# Altium schematic symbol library ul2016.SCHLIB: 21 symbols
Pins are listed as number, name and electrical type; pins without a type are passive.

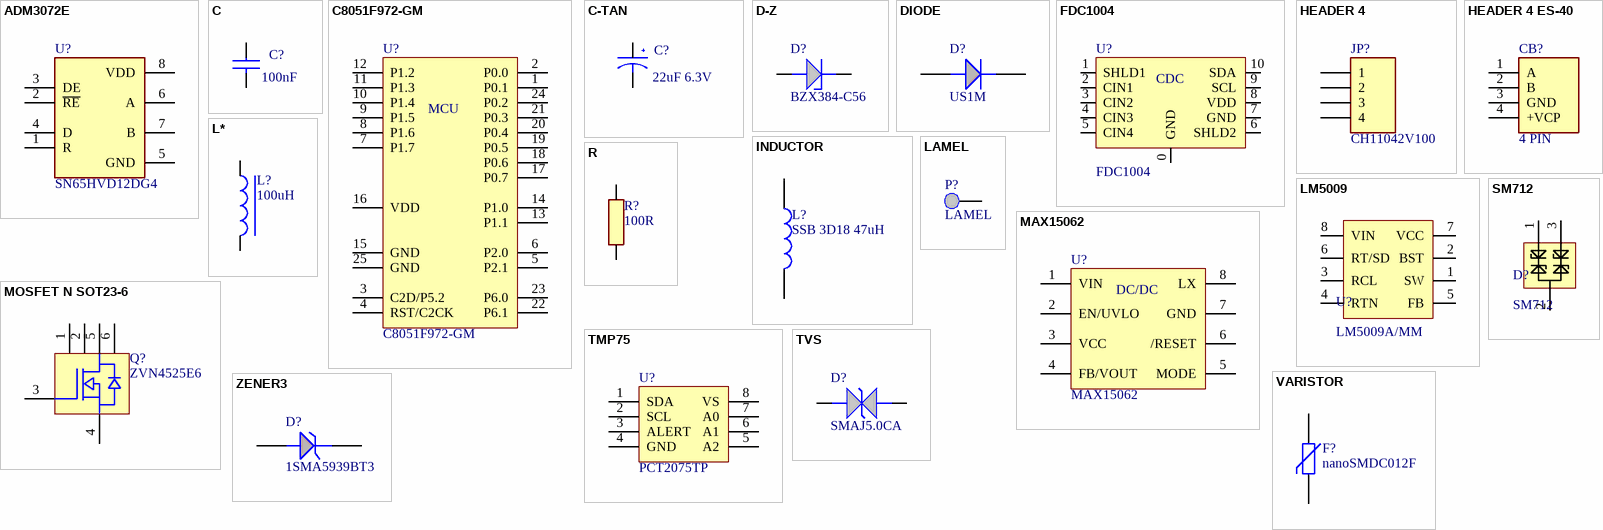
[diagram p0: symbols ADM3072E to ZENER3]

## ADM3072E
designator U?, comment SN65HVD12DG4
RS-485 Bus Transceiver
footprint SO8-(SOT-96-1)
footprint DIP-8
footprint S-PVSON-N8
pins: 1 R, 2 ~{RE}, 3 DE, 4 D, 5 GND (power), 6 A, 7 B, 8 VDD (power)
1 alternate drawing of the same symbol

## C
designator C?, comment 100nF
Производитель: Hitano; Точность: 20%; Напряжение: 16V; Тип диэлектрика: X7R
footprint C-0805
footprint C-0603
footprint C-1206
footprint C-1210
pins: 1, 2

## C8051F972-GM
designator U?
Part Field 1: Silabs; Part Field 6: 8-bit MCU
footprint QFN24_silabs
footprint QFN-24
pins: 1 P0.1, 2 P0.0, 3 C2D/P5.2, 4 RST/C2CK, 5 P2.1, 6 P2.0, 7 P1.7, 8 P1.6, 9 P1.5, 10 P1.4, 11 P1.3, 12 P1.2, 13 P1.1, 14 P1.0, 15 GND, 16 VDD, 17 P0.7, 18 P0.6, 19 P0.5, 20 P0.4, 21 P0.3, 22 P6.1, 23 P6.0, 24 P0.2, 25 GND
text: MCU

## C-TAN
designator C?, comment 22uF 6.3V
Производитель: AVX; Точность: 20%; Тип диэлектрика: TA; Напряжение: 6.3V
footprint TANT-A
footprint TANT-B
footprint TANT-C
footprint TANT-D
pins: 1 +, 2 -

## D-Z
designator D?, comment BZX384-C56
Part Field 1: *; Part Field 6: *
footprint SOD-80
footprint SOD-323-(SC-76)
pins: A, K

## DIODE
designator D?, comment US1M
Diode
footprint SMA
pins: 1 A, 2 K

## FDC1004
designator U?
footprint WSON10
pins: 0 GND, 1 SHLD1, 2 CIN1, 3 CIN2, 4 CIN3, 5 CIN4, 6 SHLD2, 7 GND, 8 VDD, 9 SCL, 10 SDA
text: CDC

## HEADER 4
designator JP?, comment CH11042V100
4 Pin Header
pins: 1, 2, 3, 4

## HEADER 4 ES-40
designator CB?, comment 4 PIN
4 Pin Header
footprint Model Name (Footprint not found)
pins: 1 A, 2 B, 3 GND, 4 +VCP

## INDUCTOR
designator L?, comment SSB 3D18 47uH
footprint SSB_3DXX
pins: 1, 2

## L*
designator L?, comment 100uH
Part Field 1: AnlaTech; Part Field 7: 20%; Part Field 8: SND
footprint L-0805
footprint L-1206
footprint L-SMD-1
footprint L-SMD-2
footprint SND-03021-R
footprint SM/L_1210
footprint C-1210
pins: 1, 2

## LAMEL
designator P?
footprint LM_CX
footprint LM_INT
footprint TP
pins: 1

## LM5009
designator U?, comment LM5009A/MM
pins: 1 SW, 2 BST, 3 RCL, 4 RTN, 5 FB, 6 RT/SD, 7 VCC, 8 VIN

## MAX15062
designator U?
footprint 8TDFN (2*2 mm MAXIM)
pins: 1 VIN, 2 EN/UVLO, 3 VCC, 4 FB/VOUT, 5 MODE, 6 /RESET, 7 GND, 8 LX
text: DC/DC

## MOSFET N SOT23-6
designator Q?, comment ZVN4525E6
pins: 1 D, 2 D, 3 G, 4 S, 5 D, 6 D

## R
designator R?, comment 100R
Точность: 5%; Производитель: *; Тип: *
footprint R-0805
footprint R-0603
footprint R-1206
footprint R-1210
pins: 1, 2

## SM712
designator D?
footprint SOT-23
pins: 1, 2, 3

## TMP75
designator U?, comment PCT2075TP
Part Field 1: NXP; Part Field 6: I2C Digital temperature sensor
footprint SOT1069-2
pins: 1 SDA, 2 SCL, 3 ALERT, 4 GND, 5 A2, 6 A1, 7 A0, 8 VS

## TVS
designator D?, comment SMAJ5.0CA
Transient   Voltage  Suppressor; Part Field 1: Taiwan Semiconductor; Part Field 6: 5V, Bidirectional
footprint SMA
footprint SMB
footprint SMC
footprint SMA - NP
pins: 1, 2

## VARISTOR
designator F?, comment nanoSMDC012F
footprint R-1206
pins: 1, 2

## ZENER3
designator D?, comment 1SMA5939BT3
Zener Diode
footprint SMA
pins: 1 A, 2 K